# Altium schematic symbol library Power_Supervisor.SchLib: 76 symbols
Pins are listed as number, name and electrical type; pins without a type are passive.

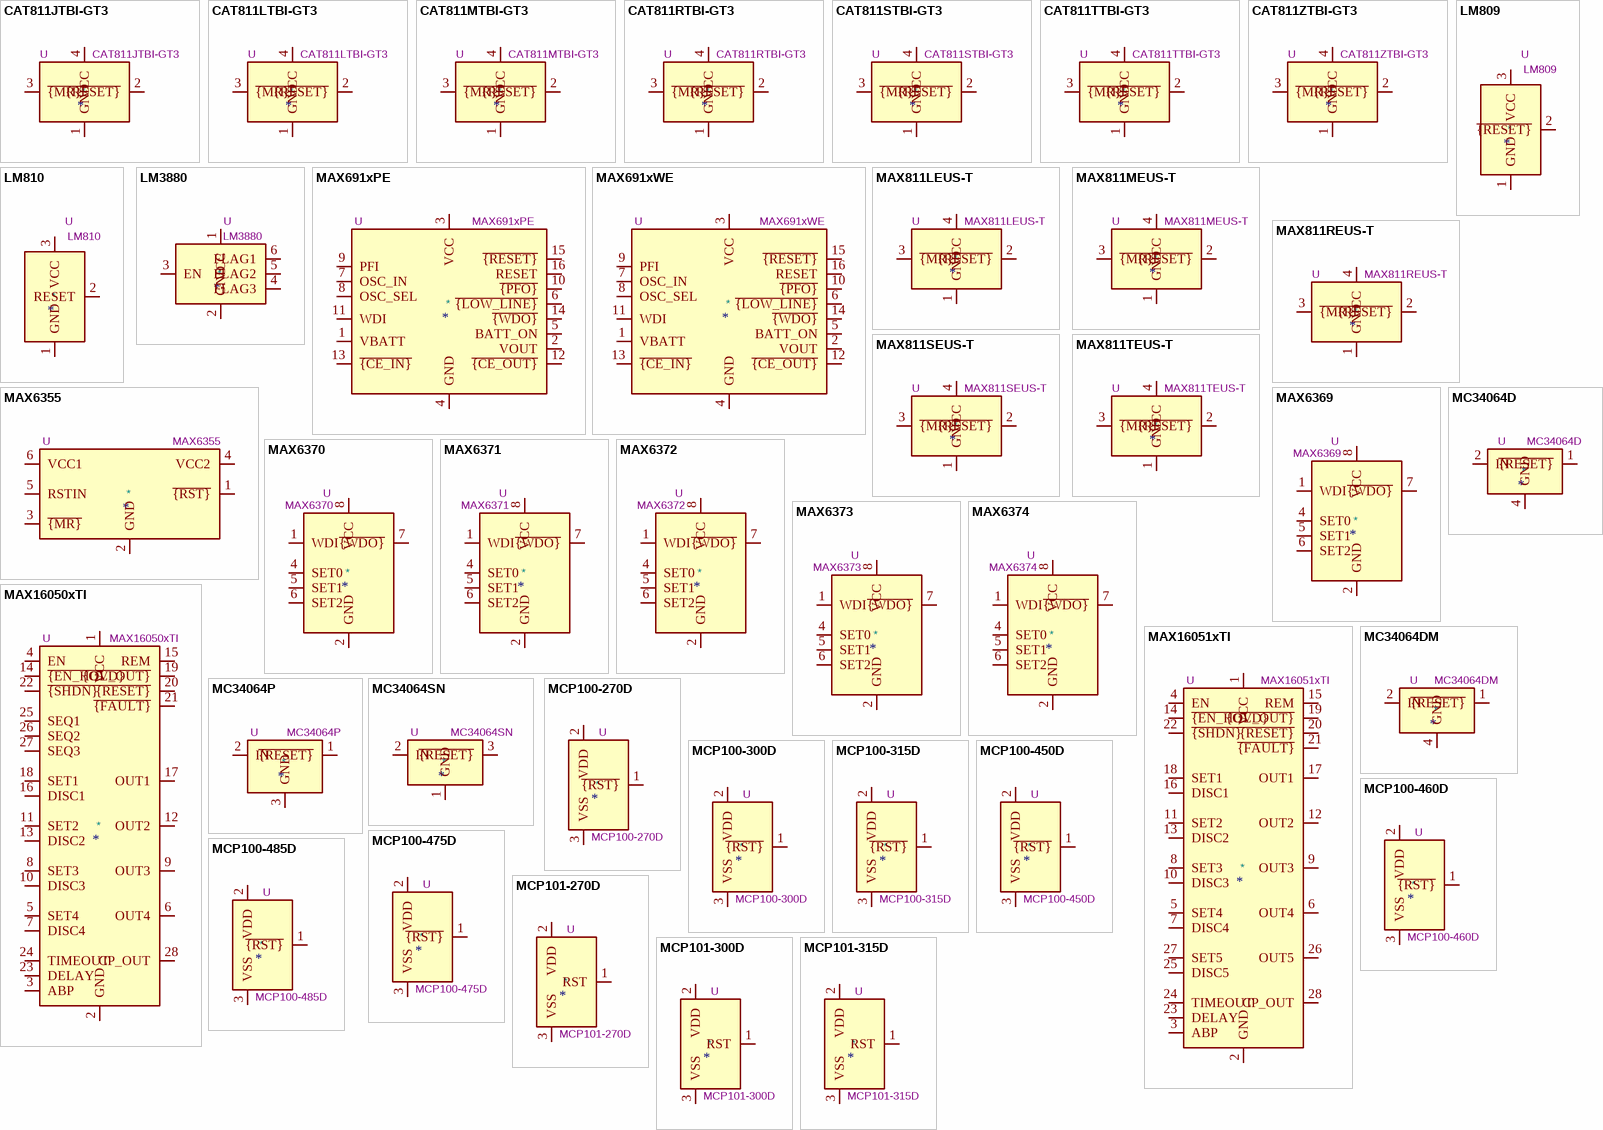
[diagram p0: symbols CAT811JTBI-GT3 to MCP101-315D]

## CAT811JTBI-GT3
designator *  value CAT811JTBI-GT3  Reference: U
ki_keywords: Supervisor Reset; ki_description: Power supply supervisor, Manual reset, Threshold 4.00V, SOT-143; ki_fp_filters: SOT*143*; Footprint: Package_TO_SOT_SMD:SOT-143; Datasheet: http://www.onsemi.com/pub/Collateral/CAT811-D.PDF
pins: 1 GND, 2 ~{{RESET}}, 3 ~{{MR}}, 4 VCC

## CAT811LTBI-GT3
designator *  value CAT811LTBI-GT3  Reference: U
ki_keywords: Supervisor Reset; ki_description: Power supply supervisor, Manual reset, Threshold 4.63V, SOT-143; ki_fp_filters: SOT*143*; Footprint: Package_TO_SOT_SMD:SOT-143; Datasheet: http://www.onsemi.com/pub/Collateral/CAT811-D.PDF
pins: 1 GND, 2 ~{{RESET}}, 3 ~{{MR}}, 4 VCC

## CAT811MTBI-GT3
designator *  value CAT811MTBI-GT3  Reference: U
ki_keywords: Supervisor Reset; ki_description: Power supply supervisor, Manual reset, Threshold 4.38V, SOT-143; ki_fp_filters: SOT*143*; Footprint: Package_TO_SOT_SMD:SOT-143; Datasheet: http://www.onsemi.com/pub/Collateral/CAT811-D.PDF
pins: 1 GND, 2 ~{{RESET}}, 3 ~{{MR}}, 4 VCC

## CAT811RTBI-GT3
designator *  value CAT811RTBI-GT3  Reference: U
ki_keywords: Supervisor Reset; ki_description: Power supply supervisor, Manual reset, Threshold 2.63V, SOT-143; ki_fp_filters: SOT*143*; Footprint: Package_TO_SOT_SMD:SOT-143; Datasheet: http://www.onsemi.com/pub/Collateral/CAT811-D.PDF
pins: 1 GND, 2 ~{{RESET}}, 3 ~{{MR}}, 4 VCC

## CAT811STBI-GT3
designator *  value CAT811STBI-GT3  Reference: U
ki_keywords: Supervisor Reset; ki_description: Power supply supervisor, Manual reset, Threshold 2.93V, SOT-143; ki_fp_filters: SOT*143*; Footprint: Package_TO_SOT_SMD:SOT-143; Datasheet: http://www.onsemi.com/pub/Collateral/CAT811-D.PDF
pins: 1 GND, 2 ~{{RESET}}, 3 ~{{MR}}, 4 VCC

## CAT811TTBI-GT3
designator *  value CAT811TTBI-GT3  Reference: U
ki_keywords: Supervisor Reset; ki_description: Power supply supervisor, Manual reset, Threshold 3.08V, SOT-143; ki_fp_filters: SOT*143*; Footprint: Package_TO_SOT_SMD:SOT-143; Datasheet: http://www.onsemi.com/pub/Collateral/CAT811-D.PDF
pins: 1 GND, 2 ~{{RESET}}, 3 ~{{MR}}, 4 VCC

## CAT811ZTBI-GT3
designator *  value CAT811ZTBI-GT3  Reference: U
ki_keywords: Supervisor Reset; ki_description: Power supply supervisor, Manual reset, Threshold 2.32V, SOT-143; ki_fp_filters: SOT*143*; Footprint: Package_TO_SOT_SMD:SOT-143; Datasheet: http://www.onsemi.com/pub/Collateral/CAT811-D.PDF
pins: 1 GND, 2 ~{{RESET}}, 3 ~{{MR}}, 4 VCC

## LM809
designator *  value LM809  Reference: U
ki_keywords: reset supervisor; ki_description: Microprocessor Reset (active-low) Circuit, SOT-23; ki_fp_filters: SOT?23*; Footprint: Package_TO_SOT_SMD:SOT-23; Datasheet: http://www.ti.com/lit/ds/symlink/lm809.pdf
pins: 1 GND, 2 ~{{RESET}}, 3 VCC

## LM810
designator *  value LM810  Reference: U
ki_keywords: reset supervisor; ki_description: Microprocessor Reset (active-high) Circuit, SOT-23; ki_fp_filters: SOT?23*; Footprint: Package_TO_SOT_SMD:SOT-23; Datasheet: http://www.ti.com/lit/ds/symlink/lm809.pdf
pins: 1 GND, 2 RESET, 3 VCC

## LM3880
designator *  value LM3880  Reference: U
ki_keywords: Power Sequencer; ki_description: Simple Power Sequencer, SOT-23-6; ki_fp_filters: SOT?23*; Footprint: Package_TO_SOT_SMD:SOT-23-6; Datasheet: http://www.ti.com/lit/ds/symlink/lm3880.pdf
pins: 1 VCC, 2 GND, 3 EN, 4 FLAG3, 5 FLAG2, 6 FLAG1

## MAX691xPE
designator *  value MAX691xPE  Reference: U
ki_keywords: Power Supervisor; ki_description: Microprocessor Supervisory Circuit, DIP-16; ki_fp_filters: DIP*W7.62mm*; Footprint: Package_DIP:DIP-16_W7.62mm; Datasheet: https://datasheets.maximintegrated.com/en/ds/MAX690-MAX695.pdf
pins: 1 VBATT, 2 VOUT, 3 VCC, 4 GND, 5 BATT_ON, 6 ~{{LOW_LINE}}, 7 OSC_IN, 8 OSC_SEL, 9 PFI, 10 ~{{PFO}}, 11 WDI, 12 ~{{CE_OUT}}, 13 ~{{CE_IN}}, 14 ~{{WDO}}, 15 ~{{RESET}}, 16 RESET

## MAX691xWE
designator *  value MAX691xWE  Reference: U
ki_keywords: Power Supervisor; ki_description: Microprocessor Supervisory Circuit, SOIC-16; ki_fp_filters: SOIC*7.5x10.3mm*P1.27mm*; Footprint: Package_SO:SOIC-16W_7.5x10.3mm_P1.27mm; Datasheet: https://datasheets.maximintegrated.com/en/ds/MAX690-MAX695.pdf
pins: 1 VBATT, 2 VOUT, 3 VCC, 4 GND, 5 BATT_ON, 6 ~{{LOW_LINE}}, 7 OSC_IN, 8 OSC_SEL, 9 PFI, 10 ~{{PFO}}, 11 WDI, 12 ~{{CE_OUT}}, 13 ~{{CE_IN}}, 14 ~{{WDO}}, 15 ~{{RESET}}, 16 RESET

## MAX811LEUS-T
designator *  value MAX811LEUS-T  Reference: U
ki_keywords: Supervisor Reset; ki_description: Power supply supervisor, Manual reset, Threshold 4.63V, SOT-143; ki_fp_filters: SOT*143*; Footprint: Package_TO_SOT_SMD:SOT-143; Datasheet: https://datasheets.maximintegrated.com/en/ds/MAX811-MAX812.pdf
pins: 1 GND, 2 ~{{RESET}}, 3 ~{{MR}}, 4 VCC

## MAX811MEUS-T
designator *  value MAX811MEUS-T  Reference: U
ki_keywords: Supervisor Reset; ki_description: Power supply supervisor, Manual reset, Threshold 4.38V, SOT-143; ki_fp_filters: SOT*143*; Footprint: Package_TO_SOT_SMD:SOT-143; Datasheet: https://datasheets.maximintegrated.com/en/ds/MAX811-MAX812.pdf
pins: 1 GND, 2 ~{{RESET}}, 3 ~{{MR}}, 4 VCC

## MAX811REUS-T
designator *  value MAX811REUS-T  Reference: U
ki_keywords: Supervisor Reset; ki_description: Power supply supervisor, Manual reset, Threshold 2.63V, SOT-143; ki_fp_filters: SOT*143*; Footprint: Package_TO_SOT_SMD:SOT-143; Datasheet: https://datasheets.maximintegrated.com/en/ds/MAX811-MAX812.pdf
pins: 1 GND, 2 ~{{RESET}}, 3 ~{{MR}}, 4 VCC

## MAX811SEUS-T
designator *  value MAX811SEUS-T  Reference: U
ki_keywords: Supervisor Reset; ki_description: Power supply supervisor, Manual reset, Threshold 2.93V, SOT-143; ki_fp_filters: SOT*143*; Footprint: Package_TO_SOT_SMD:SOT-143; Datasheet: https://datasheets.maximintegrated.com/en/ds/MAX811-MAX812.pdf
pins: 1 GND, 2 ~{{RESET}}, 3 ~{{MR}}, 4 VCC

## MAX811TEUS-T
designator *  value MAX811TEUS-T  Reference: U
ki_keywords: Supervisor Reset; ki_description: Power supply supervisor, Manual reset, Threshold 3.08V, SOT-143; ki_fp_filters: SOT*143*; Footprint: Package_TO_SOT_SMD:SOT-143; Datasheet: https://datasheets.maximintegrated.com/en/ds/MAX811-MAX812.pdf
pins: 1 GND, 2 ~{{RESET}}, 3 ~{{MR}}, 4 VCC

## MAX6355
designator *  value MAX6355  Reference: U
ki_keywords: Power Supervisor; ki_description: Dual Voltage μP Supervisory Circuits, SOT-23-6; ki_fp_filters: SOT?23*; Footprint: Package_TO_SOT_SMD:SOT-23-6; Datasheet: https://datasheets.maximintegrated.com/en/ds/MAX6351-MAX6360.pdf
pins: 1 ~{{RST}}, 2 GND, 3 ~{{MR}}, 4 VCC2, 5 RSTIN, 6 VCC1

## MAX6369
designator *  value MAX6369  Reference: U
ki_keywords: watchdog supervisor; ki_description: Precision Pin-Selectable Watchdog Timer, 200us to 60s, SOT-23-8; ki_fp_filters: SOT?23*; Footprint: Package_TO_SOT_SMD:SOT-23-8; Datasheet: https://datasheets.maximintegrated.com/en/ds/MAX6369-MAX6374.pdf
pins: 1 WDI, 2 GND, 3 NC hidden, 4 SET0, 5 SET1, 6 SET2, 7 ~{{WDO}}, 8 VCC

## MAX6370
designator *  value MAX6370  Reference: U
ki_keywords: watchdog supervisor; ki_description: Precision Pin-Selectable Watchdog Timer, 200us to 60s, SOT-23-8; ki_fp_filters: SOT?23*; Footprint: Package_TO_SOT_SMD:SOT-23-8; Datasheet: https://datasheets.maximintegrated.com/en/ds/MAX6369-MAX6374.pdf
pins: 1 WDI, 2 GND, 3 NC hidden, 4 SET0, 5 SET1, 6 SET2, 7 ~{{WDO}}, 8 VCC

## MAX6371
designator *  value MAX6371  Reference: U
ki_keywords: watchdog supervisor; ki_description: Precision Pin-Selectable Watchdog Timer, 200us to 60s, SOT-23-8; ki_fp_filters: SOT?23*; Footprint: Package_TO_SOT_SMD:SOT-23-8; Datasheet: https://datasheets.maximintegrated.com/en/ds/MAX6369-MAX6374.pdf
pins: 1 WDI, 2 GND, 3 NC hidden, 4 SET0, 5 SET1, 6 SET2, 7 ~{{WDO}}, 8 VCC

## MAX6372
designator *  value MAX6372  Reference: U
ki_keywords: watchdog supervisor; ki_description: Precision Pin-Selectable Watchdog Timer, 200us to 60s, SOT-23-8; ki_fp_filters: SOT?23*; Footprint: Package_TO_SOT_SMD:SOT-23-8; Datasheet: https://datasheets.maximintegrated.com/en/ds/MAX6369-MAX6374.pdf
pins: 1 WDI, 2 GND, 3 NC hidden, 4 SET0, 5 SET1, 6 SET2, 7 ~{{WDO}}, 8 VCC

## MAX6373
designator *  value MAX6373  Reference: U
ki_keywords: watchdog supervisor; ki_description: Precision Pin-Selectable Watchdog Timer, 200us to 60s, SOT-23-8; ki_fp_filters: SOT?23*; Footprint: Package_TO_SOT_SMD:SOT-23-8; Datasheet: https://datasheets.maximintegrated.com/en/ds/MAX6369-MAX6374.pdf
pins: 1 WDI, 2 GND, 3 NC hidden, 4 SET0, 5 SET1, 6 SET2, 7 ~{{WDO}}, 8 VCC

## MAX6374
designator *  value MAX6374  Reference: U
ki_keywords: watchdog supervisor; ki_description: Precision Pin-Selectable Watchdog Timer, 200us to 60s, SOT-23-8; ki_fp_filters: SOT?23*; Footprint: Package_TO_SOT_SMD:SOT-23-8; Datasheet: https://datasheets.maximintegrated.com/en/ds/MAX6369-MAX6374.pdf
pins: 1 WDI, 2 GND, 3 NC hidden, 4 SET0, 5 SET1, 6 SET2, 7 ~{{WDO}}, 8 VCC

## MAX16050xTI
designator *  value MAX16050xTI  Reference: U
ki_keywords: power sequencing; ki_description: 5 Voltage Monitor/Sequencer with Reverse-Sequencing Capability, QFN-28; ki_fp_filters: QFN*1EP*4x4mm*P0.4mm*; Footprint: Package_DFN_QFN:QFN-28-1EP_4x4mm_P0.4mm_EP2.6x2.6mm; Datasheet: https://datasheets.maximintegrated.com/en/ds/MAX16050-MAX16051.pdf
pins: 1 VCC, 2 GND, 3 ABP, 4 EN, 5 SET4, 6 OUT4, 7 DISC4, 8 SET3, 9 OUT3, 10 DISC3, 11 SET2, 12 OUT2, 13 DISC2, 14 ~{{EN_HOLD}}, 15 REM, 16 DISC1, 17 OUT1, 18 SET1, 19 ~{{OV_OUT}}, 20 ~{{RESET}}, 21 ~{{FAULT}}, 22 ~{{SHDN}}, 23 DELAY, 24 TIMEOUT, 25 SEQ1, 26 SEQ2, 27 SEQ3, 28 CP_OUT, 29 GND hidden

## MAX16051xTI
designator *  value MAX16051xTI  Reference: U
ki_keywords: power sequencing; ki_description: 6 Voltage Monitor/Sequencer with Reverse-Sequencing Capability, QFN-28; ki_fp_filters: QFN*1EP*4x4mm*P0.4mm*; Footprint: Package_DFN_QFN:QFN-28-1EP_4x4mm_P0.4mm_EP2.6x2.6mm; Datasheet: https://datasheets.maximintegrated.com/en/ds/MAX16050-MAX16051.pdf
pins: 1 VCC, 2 GND, 3 ABP, 4 EN, 5 SET4, 6 OUT4, 7 DISC4, 8 SET3, 9 OUT3, 10 DISC3, 11 SET2, 12 OUT2, 13 DISC2, 14 ~{{EN_HOLD}}, 15 REM, 16 DISC1, 17 OUT1, 18 SET1, 19 ~{{OV_OUT}}, 20 ~{{RESET}}, 21 ~{{FAULT}}, 22 ~{{SHDN}}, 23 DELAY, 24 TIMEOUT, 25 DISC5, 26 OUT5, 27 SET5, 28 CP_OUT, 29 GND hidden

## MC34064D
designator *  value MC34064D  Reference: U
ki_keywords: Power Supervisor; ki_description: Undervoltage Sensing Circuit, SOIC-8; ki_fp_filters: SOIC*3.9x4.9mm*P1.27mm*; Footprint: Package_SO:SOIC-8_3.9x4.9mm_P1.27mm; Datasheet: https://www.onsemi.com/pub/Collateral/MC34064-D.PDF
pins: 1 ~{{RESET}}, 2 IN, 3 NC hidden, 4 GND, 5 NC hidden, 6 NC hidden, 7 NC hidden, 8 NC hidden

## MC34064DM
designator *  value MC34064DM  Reference: U
ki_keywords: Power Supervisor; ki_description: Undervoltage Sensing Circuit, MSOP-8; ki_fp_filters: MSOP*3x3mm*P0.65mm*; Footprint: Package_SO:MSOP-8_3x3mm_P0.65mm; Datasheet: https://www.onsemi.com/pub/Collateral/MC34064-D.PDF
pins: 1 ~{{RESET}}, 2 IN, 3 NC hidden, 4 GND, 5 NC hidden, 6 NC hidden, 7 NC hidden, 8 NC hidden

## MC34064P
designator *  value MC34064P  Reference: U
ki_keywords: Power Supervisor; ki_description: Undervoltage Sensing Circuit, TO-92; ki_fp_filters: TO?92L?Inline*; Footprint: Package_TO_SOT_THT:TO-92L_Inline; Datasheet: https://www.onsemi.com/pub/Collateral/MC34064-D.PDF
pins: 1 ~{{RESET}}, 2 IN, 3 GND

## MC34064SN
designator *  value MC34064SN  Reference: U
ki_keywords: Power Supervisor; ki_description: Undervoltage Sensing Circuit, TSOP-5; ki_fp_filters: TSOP*1.65x3.05mm*P0.95mm*; Footprint: Package_SO:TSOP-5_1.65x3.05mm_P0.95mm; Datasheet: https://www.onsemi.com/pub/Collateral/MC34064-D.PDF
pins: 1 GND, 2 IN, 3 ~{{RESET}}, 4 NC hidden, 5 NC hidden

## MCP100-270D
designator *  value MCP100-270D  Reference: U
ki_keywords: supervisor reset push-pull; ki_description: Microcontroller reset monitor, 2.70V threshold, active low output; ki_fp_filters: SOT?23* TO?92*; Datasheet: http://ww1.microchip.com/downloads/en/DeviceDoc/11187f.pdf
pins: 1 ~{{RST}}, 2 VDD, 3 VSS

## MCP100-300D
designator *  value MCP100-300D  Reference: U
ki_keywords: supervisor reset push-pull; ki_description: Microcontroller reset monitor, 3.00V threshold, active low output; ki_fp_filters: SOT?23* TO?92*; Datasheet: http://ww1.microchip.com/downloads/en/DeviceDoc/11187f.pdf
pins: 1 ~{{RST}}, 2 VDD, 3 VSS

## MCP100-315D
designator *  value MCP100-315D  Reference: U
ki_keywords: supervisor reset push-pull; ki_description: Microcontroller reset monitor, 3.15V threshold, active low output; ki_fp_filters: SOT?23* TO?92*; Datasheet: http://ww1.microchip.com/downloads/en/DeviceDoc/11187f.pdf
pins: 1 ~{{RST}}, 2 VDD, 3 VSS

## MCP100-450D
designator *  value MCP100-450D  Reference: U
ki_keywords: supervisor reset push-pull; ki_description: Microcontroller reset monitor, 4.50V threshold, active low output; ki_fp_filters: SOT?23* TO?92*; Datasheet: http://ww1.microchip.com/downloads/en/DeviceDoc/11187f.pdf
pins: 1 ~{{RST}}, 2 VDD, 3 VSS

## MCP100-460D
designator *  value MCP100-460D  Reference: U
ki_keywords: supervisor reset push-pull; ki_description: Microcontroller reset monitor, 4.60V threshold, active low output; ki_fp_filters: SOT?23* TO?92*; Datasheet: http://ww1.microchip.com/downloads/en/DeviceDoc/11187f.pdf
pins: 1 ~{{RST}}, 2 VDD, 3 VSS

## MCP100-475D
designator *  value MCP100-475D  Reference: U
ki_keywords: supervisor reset push-pull; ki_description: Microcontroller reset monitor, 4.75V threshold, active low output; ki_fp_filters: SOT?23* TO?92*; Datasheet: http://ww1.microchip.com/downloads/en/DeviceDoc/11187f.pdf
pins: 1 ~{{RST}}, 2 VDD, 3 VSS

## MCP100-485D
designator *  value MCP100-485D  Reference: U
ki_keywords: supervisor reset push-pull; ki_description: Microcontroller reset monitor, 4.85V threshold, active low output; ki_fp_filters: SOT?23* TO?92*; Datasheet: http://ww1.microchip.com/downloads/en/DeviceDoc/11187f.pdf
pins: 1 ~{{RST}}, 2 VDD, 3 VSS

## MCP101-270D
designator *  value MCP101-270D  Reference: U
ki_keywords: supervisor reset push-pull; ki_description: Microcontroller reset monitor, 2.70V threshold, active high output; ki_fp_filters: SOT?23* TO?92*; Datasheet: http://ww1.microchip.com/downloads/en/DeviceDoc/11187f.pdf
pins: 1 RST, 2 VDD, 3 VSS

## MCP101-300D
designator *  value MCP101-300D  Reference: U
ki_keywords: supervisor reset push-pull; ki_description: Microcontroller reset monitor, 3.00V threshold, active high output; ki_fp_filters: SOT?23* TO?92*; Datasheet: http://ww1.microchip.com/downloads/en/DeviceDoc/11187f.pdf
pins: 1 RST, 2 VDD, 3 VSS

## MCP101-315D
designator *  value MCP101-315D  Reference: U
ki_keywords: supervisor reset push-pull; ki_description: Microcontroller reset monitor, 3.15V threshold, active high output; ki_fp_filters: SOT?23* TO?92*; Datasheet: http://ww1.microchip.com/downloads/en/DeviceDoc/11187f.pdf
pins: 1 RST, 2 VDD, 3 VSS

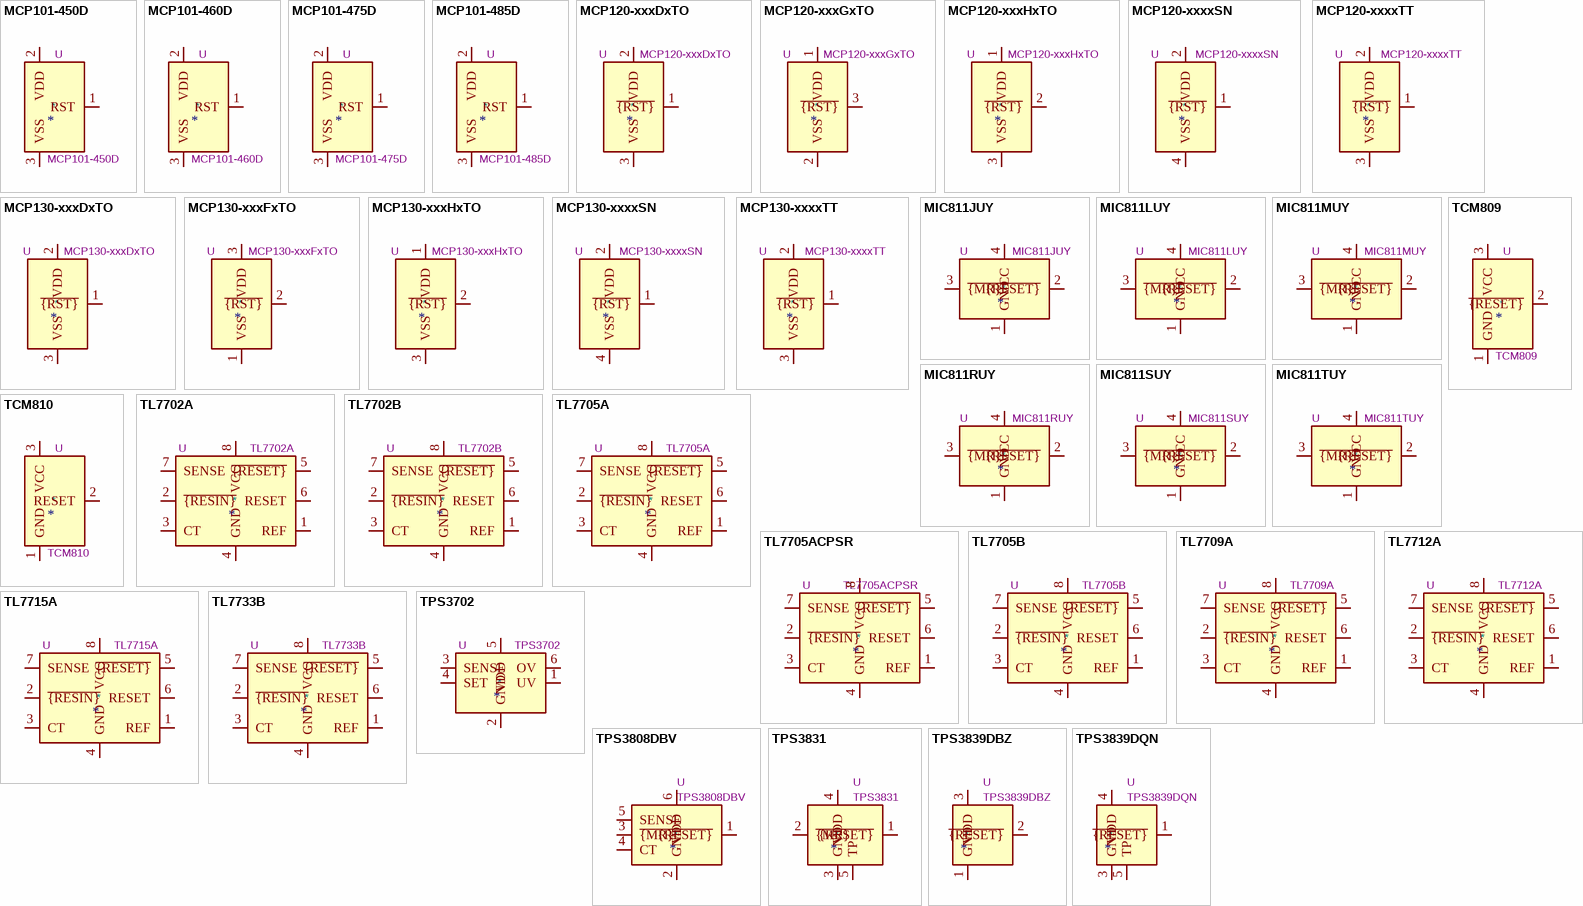
[diagram p1: symbols MCP101-450D to TPS3839DQN]

## MCP101-450D
designator *  value MCP101-450D  Reference: U
ki_keywords: supervisor reset push-pull; ki_description: Microcontroller reset monitor, 4.50V threshold, active high output; ki_fp_filters: SOT?23* TO?92*; Datasheet: http://ww1.microchip.com/downloads/en/DeviceDoc/11187f.pdf
pins: 1 RST, 2 VDD, 3 VSS

## MCP101-460D
designator *  value MCP101-460D  Reference: U
ki_keywords: supervisor reset push-pull; ki_description: Microcontroller reset monitor, 4.60V threshold, active high output; ki_fp_filters: SOT?23* TO?92*; Datasheet: http://ww1.microchip.com/downloads/en/DeviceDoc/11187f.pdf
pins: 1 RST, 2 VDD, 3 VSS

## MCP101-475D
designator *  value MCP101-475D  Reference: U
ki_keywords: supervisor reset push-pull; ki_description: Microcontroller reset monitor, 4.75V threshold, active high output; ki_fp_filters: SOT?23* TO?92*; Datasheet: http://ww1.microchip.com/downloads/en/DeviceDoc/11187f.pdf
pins: 1 RST, 2 VDD, 3 VSS

## MCP101-485D
designator *  value MCP101-485D  Reference: U
ki_keywords: supervisor reset push-pull; ki_description: Microcontroller reset monitor, 4.85V threshold, active high output; ki_fp_filters: SOT?23* TO?92*; Datasheet: http://ww1.microchip.com/downloads/en/DeviceDoc/11187f.pdf
pins: 1 RST, 2 VDD, 3 VSS

## MCP120-xxxDxTO
designator *  value MCP120-xxxDxTO  Reference: U
ki_keywords: supervisory circuit; ki_description: Microcontroller supervisory circuit, TO-92; ki_fp_filters: TO*92*Inline*; Footprint: Package_TO_SOT_THT:TO-92_Inline; Datasheet: http://ww1.microchip.com/downloads/en/DeviceDoc/11184d.pdf
pins: 1 ~{{RST}}, 2 VDD, 3 VSS

## MCP120-xxxGxTO
designator *  value MCP120-xxxGxTO  Reference: U
ki_keywords: supervisory circuit; ki_description: Microcontroller supervisory circuit, TO-92; ki_fp_filters: TO*92*Inline*; Footprint: Package_TO_SOT_THT:TO-92_Inline; Datasheet: http://ww1.microchip.com/downloads/en/DeviceDoc/11184d.pdf
pins: 1 VDD, 2 VSS, 3 ~{{RST}}

## MCP120-xxxHxTO
designator *  value MCP120-xxxHxTO  Reference: U
ki_keywords: supervisory circuit; ki_description: Microcontroller supervisory circuit, TO-92; ki_fp_filters: TO*92*Inline*; Footprint: Package_TO_SOT_THT:TO-92_Inline; Datasheet: http://ww1.microchip.com/downloads/en/DeviceDoc/11184d.pdf
pins: 1 VDD, 2 ~{{RST}}, 3 VSS

## MCP120-xxxxSN
designator *  value MCP120-xxxxSN  Reference: U
ki_keywords: supervisory circuit; ki_description: Microcontroller supervisory circuit, SOIC-8; ki_fp_filters: SOIC*3.9x4.9mm*P1.27mm*; Footprint: Package_SO:SOIC-8_3.9x4.9mm_P1.27mm; Datasheet: http://ww1.microchip.com/downloads/en/DeviceDoc/11184d.pdf
pins: 1 ~{{RST}}, 2 VDD, 3 NC hidden, 4 VSS, 5 NC hidden, 6 NC hidden, 7 NC hidden, 8 NC hidden

## MCP120-xxxxTT
designator *  value MCP120-xxxxTT  Reference: U
ki_keywords: supervisory circuit; ki_description: Microcontroller supervisory circuit, SOT-23; ki_fp_filters: SOT?23*; Footprint: Package_TO_SOT_SMD:SOT-23; Datasheet: http://ww1.microchip.com/downloads/en/DeviceDoc/11184d.pdf
pins: 1 ~{{RST}}, 2 VDD, 3 VSS

## MCP130-xxxDxTO
designator *  value MCP130-xxxDxTO  Reference: U
ki_keywords: supervisory circuit pull-up; ki_description: Microcontroller supervisory circuit with internal 5 kΩ pull-up, TO-92; ki_fp_filters: TO*92*Inline*; Footprint: Package_TO_SOT_THT:TO-92_Inline; Datasheet: http://ww1.microchip.com/downloads/en/DeviceDoc/11184d.pdf
pins: 1 ~{{RST}}, 2 VDD, 3 VSS

## MCP130-xxxFxTO
designator *  value MCP130-xxxFxTO  Reference: U
ki_keywords: supervisory circuit pull-up; ki_description: Microcontroller supervisory circuit with internal 5 kΩ pull-up, TO-92; ki_fp_filters: TO*92*Inline*; Footprint: Package_TO_SOT_THT:TO-92_Inline; Datasheet: http://ww1.microchip.com/downloads/en/DeviceDoc/11184d.pdf
pins: 1 VSS, 2 ~{{RST}}, 3 VDD

## MCP130-xxxHxTO
designator *  value MCP130-xxxHxTO  Reference: U
ki_keywords: supervisory circuit pull-up; ki_description: Microcontroller supervisory circuit with internal 5 kΩ pull-up, TO-92; ki_fp_filters: TO*92*Inline*; Footprint: Package_TO_SOT_THT:TO-92_Inline; Datasheet: http://ww1.microchip.com/downloads/en/DeviceDoc/11184d.pdf
pins: 1 VDD, 2 ~{{RST}}, 3 VSS

## MCP130-xxxxSN
designator *  value MCP130-xxxxSN  Reference: U
ki_keywords: supervisory circuit pull-up; ki_description: Microcontroller supervisory circuit with internal 5 kΩ pull-up, SOIC-8; ki_fp_filters: SOIC*3.9x4.9mm*P1.27mm*; Footprint: Package_SO:SOIC-8_3.9x4.9mm_P1.27mm; Datasheet: http://ww1.microchip.com/downloads/en/DeviceDoc/11184d.pdf
pins: 1 ~{{RST}}, 2 VDD, 3 NC hidden, 4 VSS, 5 NC hidden, 6 NC hidden, 7 NC hidden, 8 NC hidden

## MCP130-xxxxTT
designator *  value MCP130-xxxxTT  Reference: U
ki_keywords: supervisory circuit pull-up; ki_description: Microcontroller supervisory circuit with internal 5 kΩ pull-up, SOT-23; ki_fp_filters: SOT?23*; Footprint: Package_TO_SOT_SMD:SOT-23; Datasheet: http://ww1.microchip.com/downloads/en/DeviceDoc/11184d.pdf
pins: 1 ~{{RST}}, 2 VDD, 3 VSS

## MIC811JUY
designator *  value MIC811JUY  Reference: U
ki_keywords: Supervisor Reset; ki_description: Power supply supervisor, Manual reset, Threshold 4.00V, SOT-143; ki_fp_filters: SOT*143*; Footprint: Package_TO_SOT_SMD:SOT-143; Datasheet: http://ww1.microchip.com/downloads/en/DeviceDoc/mic811.pdf
pins: 1 GND, 2 ~{{RESET}}, 3 ~{{MR}}, 4 VCC

## MIC811LUY
designator *  value MIC811LUY  Reference: U
ki_keywords: Supervisor Reset; ki_description: Power supply supervisor, Manual reset, Threshold 4.63V, SOT-143; ki_fp_filters: SOT*143*; Footprint: Package_TO_SOT_SMD:SOT-143; Datasheet: http://ww1.microchip.com/downloads/en/DeviceDoc/mic811.pdf
pins: 1 GND, 2 ~{{RESET}}, 3 ~{{MR}}, 4 VCC

## MIC811MUY
designator *  value MIC811MUY  Reference: U
ki_keywords: Supervisor Reset; ki_description: Power supply supervisor, Manual reset, Threshold 4.38V, SOT-143; ki_fp_filters: SOT*143*; Footprint: Package_TO_SOT_SMD:SOT-143; Datasheet: http://ww1.microchip.com/downloads/en/DeviceDoc/mic811.pdf
pins: 1 GND, 2 ~{{RESET}}, 3 ~{{MR}}, 4 VCC

## MIC811RUY
designator *  value MIC811RUY  Reference: U
ki_keywords: Supervisor Reset; ki_description: Power supply supervisor, Manual reset, Threshold 2.63V, SOT-143; ki_fp_filters: SOT*143*; Footprint: Package_TO_SOT_SMD:SOT-143; Datasheet: http://ww1.microchip.com/downloads/en/DeviceDoc/mic811.pdf
pins: 1 GND, 2 ~{{RESET}}, 3 ~{{MR}}, 4 VCC

## MIC811SUY
designator *  value MIC811SUY  Reference: U
ki_keywords: Supervisor Reset; ki_description: Power supply supervisor, Manual reset, Threshold 2.93V, SOT-143; ki_fp_filters: SOT*143*; Footprint: Package_TO_SOT_SMD:SOT-143; Datasheet: http://ww1.microchip.com/downloads/en/DeviceDoc/mic811.pdf
pins: 1 GND, 2 ~{{RESET}}, 3 ~{{MR}}, 4 VCC

## MIC811TUY
designator *  value MIC811TUY  Reference: U
ki_keywords: Supervisor Reset; ki_description: Power supply supervisor, Manual reset, Threshold 3.08V, SOT-143; ki_fp_filters: SOT*143*; Footprint: Package_TO_SOT_SMD:SOT-143; Datasheet: http://ww1.microchip.com/downloads/en/DeviceDoc/mic811.pdf
pins: 1 GND, 2 ~{{RESET}}, 3 ~{{MR}}, 4 VCC

## TCM809
designator *  value TCM809  Reference: U
ki_keywords: supervisor reset push-pull; ki_description: Microcontroller reset monitor, active low output; ki_fp_filters: SOT?23* *SC?70*; Datasheet: http://ww1.microchip.com/downloads/en/DeviceDoc/21661E.pdf
pins: 1 GND, 2 ~{{RESET}}, 3 VCC

## TCM810
designator *  value TCM810  Reference: U
ki_keywords: supervisor reset push-pull; ki_description: Microcontroller reset monitor, active high output; ki_fp_filters: SOT?23* *SC?70*; Datasheet: http://ww1.microchip.com/downloads/en/DeviceDoc/21661E.pdf
pins: 1 GND, 2 RESET, 3 VCC

## TL7702A
designator *  value TL7702A  Reference: U
ki_keywords: voltage supervisor; ki_description: Supply-Voltage Supervisors, 2.53V, PDIP-8/SOIC-8; ki_fp_filters: SOIC*3.9x4.9mm*P1.27mm* DIP*W7.62mm*; Datasheet: http://www.ti.com.cn/cn/lit/ds/symlink/tl7705a.pdf
pins: 1 REF, 2 ~{{RESIN}}, 3 CT, 4 GND, 5 ~{{RESET}}, 6 RESET, 7 SENSE, 8 VCC

## TL7702B
designator *  value TL7702B  Reference: U
ki_keywords: voltage supervisor; ki_description: Supply-Voltage Supervisors, 2.53V, PDIP-8/SOIC-8; ki_fp_filters: SOIC*3.9x4.9mm*P1.27mm* DIP*W7.62mm*; Datasheet: http://www.ti.com.cn/cn/lit/ds/symlink/tl7705b.pdf
pins: 1 REF, 2 ~{{RESIN}}, 3 CT, 4 GND, 5 ~{{RESET}}, 6 RESET, 7 SENSE, 8 VCC

## TL7705A
designator *  value TL7705A  Reference: U
ki_keywords: voltage supervisor; ki_description: Supply-Voltage Supervisors, 4.55V, PDIP-8/SOIC-8; ki_fp_filters: SOIC*3.9x4.9mm*P1.27mm* DIP*W7.62mm*; Datasheet: http://www.ti.com.cn/cn/lit/ds/symlink/tl7705a.pdf
pins: 1 REF, 2 ~{{RESIN}}, 3 CT, 4 GND, 5 ~{{RESET}}, 6 RESET, 7 SENSE, 8 VCC

## TL7705ACPSR
designator *  value TL7705ACPSR  Reference: U
ki_keywords: voltage supervisor; ki_description: Supply-Voltage Supervisors, 4.55V, SO-8; ki_fp_filters: SO*5.3x6.2mm*P1.27mm*; Footprint: Package_SO:SO-8_5.3x6.2mm_P1.27mm; Datasheet: http://www.ti.com.cn/cn/lit/ds/symlink/tl7705a.pdf
pins: 1 REF, 2 ~{{RESIN}}, 3 CT, 4 GND, 5 ~{{RESET}}, 6 RESET, 7 SENSE, 8 VCC

## TL7705B
designator *  value TL7705B  Reference: U
ki_keywords: voltage supervisor; ki_description: Supply-Voltage Supervisors, 4.55V, PDIP-8/SOIC-8; ki_fp_filters: SOIC*3.9x4.9mm*P1.27mm* DIP*W7.62mm*; Datasheet: http://www.ti.com.cn/cn/lit/ds/symlink/tl7705b.pdf
pins: 1 REF, 2 ~{{RESIN}}, 3 CT, 4 GND, 5 ~{{RESET}}, 6 RESET, 7 SENSE, 8 VCC

## TL7709A
designator *  value TL7709A  Reference: U
ki_keywords: voltage supervisor; ki_description: Supply-Voltage Supervisors, 7.6V, PDIP-8/SOIC-8; ki_fp_filters: SOIC*3.9x4.9mm*P1.27mm* DIP*W7.62mm*; Datasheet: http://www.ti.com.cn/cn/lit/ds/symlink/tl7705a.pdf
pins: 1 REF, 2 ~{{RESIN}}, 3 CT, 4 GND, 5 ~{{RESET}}, 6 RESET, 7 SENSE, 8 VCC

## TL7712A
designator *  value TL7712A  Reference: U
ki_keywords: voltage supervisor; ki_description: Supply-Voltage Supervisors, 10.8V, PDIP-8/SOIC-8; ki_fp_filters: SOIC*3.9x4.9mm*P1.27mm* DIP*W7.62mm*; Datasheet: http://www.ti.com.cn/cn/lit/ds/symlink/tl7705a.pdf
pins: 1 REF, 2 ~{{RESIN}}, 3 CT, 4 GND, 5 ~{{RESET}}, 6 RESET, 7 SENSE, 8 VCC

## TL7715A
designator *  value TL7715A  Reference: U
ki_keywords: voltage supervisor; ki_description: Supply-Voltage Supervisors, 13.5V, PDIP-8/SOIC-8; ki_fp_filters: SOIC*3.9x4.9mm*P1.27mm* DIP*W7.62mm*; Datasheet: http://www.ti.com.cn/cn/lit/ds/symlink/tl7705a.pdf
pins: 1 REF, 2 ~{{RESIN}}, 3 CT, 4 GND, 5 ~{{RESET}}, 6 RESET, 7 SENSE, 8 VCC

## TL7733B
designator *  value TL7733B  Reference: U
ki_keywords: voltage supervisor; ki_description: Supply-Voltage Supervisors, 3.08V, PDIP-8/SOIC-8; ki_fp_filters: SOIC*3.9x4.9mm*P1.27mm* DIP*W7.62mm*; Datasheet: http://www.ti.com.cn/cn/lit/ds/symlink/tl7705b.pdf
pins: 1 REF, 2 ~{{RESIN}}, 3 CT, 4 GND, 5 ~{{RESET}}, 6 RESET, 7 SENSE, 8 VCC

## TPS3702
designator *  value TPS3702  Reference: U
ki_keywords: protection overvoltage unvervoltage monitor; ki_description: High-Accuracy, Overvoltage and Undervoltage Monitor, SOT-23-6; ki_fp_filters: SOT?23*; Footprint: Package_TO_SOT_SMD:SOT-23-6; Datasheet: http://www.ti.com/lit/ds/symlink/tps3702.pdf
pins: 1 UV, 2 GND, 3 SENSE, 4 SET, 5 VDD, 6 OV

## TPS3808DBV
designator *  value TPS3808DBV  Reference: U
ki_keywords: supply voltage supervisor; ki_description: Low-Quiescent-Current, Programmable-Delay Supervisory Circuit, SOT-23-6; ki_fp_filters: SOT?23*; Footprint: Package_TO_SOT_SMD:SOT-23-6; Datasheet: http://www.ti.com/lit/ds/symlink/tps3808.pdf
pins: 1 ~{{RESET}}, 2 GND, 3 ~{{MR}}, 4 CT, 5 SENSE, 6 VDD

## TPS3831
designator *  value TPS3831  Reference: U
ki_keywords: supply voltage supervisor; ki_description: 150-nA, Ultralow Power, Supply Voltage Monitor, X2SON-4; ki_fp_filters: Texas*X2SON*1x1mm*P0.65mm*; Footprint: Package_SON:Texas_X2SON-4_1x1mm_P0.65mm; Datasheet: http://www.ti.com/lit/ds/sbvs193d/sbvs193d.pdf
pins: 1 ~{{RESET}}, 2 ~{{MR}}, 3 GND, 4 VDD, 5 TP

## TPS3839DBZ
designator *  value TPS3839DBZ  Reference: U
ki_keywords: supply voltage supervisor; ki_description: 150-nA, Ultralow Power, Supply Voltage Monitor, SOT-23; ki_fp_filters: SOT?23*; Footprint: Package_TO_SOT_SMD:SOT-23; Datasheet: http://www.ti.com/lit/ds/sbvs193d/sbvs193d.pdf
pins: 1 GND, 2 ~{{RESET}}, 3 VDD

## TPS3839DQN
designator *  value TPS3839DQN  Reference: U
ki_keywords: supply voltage supervisor; ki_description: 150-nA, Ultralow Power, Supply Voltage Monitor, X2SON-4; ki_fp_filters: Texas*X2SON*1x1mm*P0.65mm*; Footprint: Package_SON:Texas_X2SON-4_1x1mm_P0.65mm; Datasheet: http://www.ti.com/lit/ds/sbvs193d/sbvs193d.pdf
pins: 1 ~{{RESET}}, 2 NC hidden, 3 GND, 4 VDD, 5 TP